# Altium footprint library flight-controller.PcbLib: 66 footprints (part 4 of 5)
Each footprint in its own frame and in the unit in brackets; x right, y up, seen from the top. Pads: shape width x height; smd on the part's side, far side on the other; paste and mask are expansions set on the pad; w line width, h text height; cw(c..) or ccw(c..) is an arc to the next point about the centre after c.
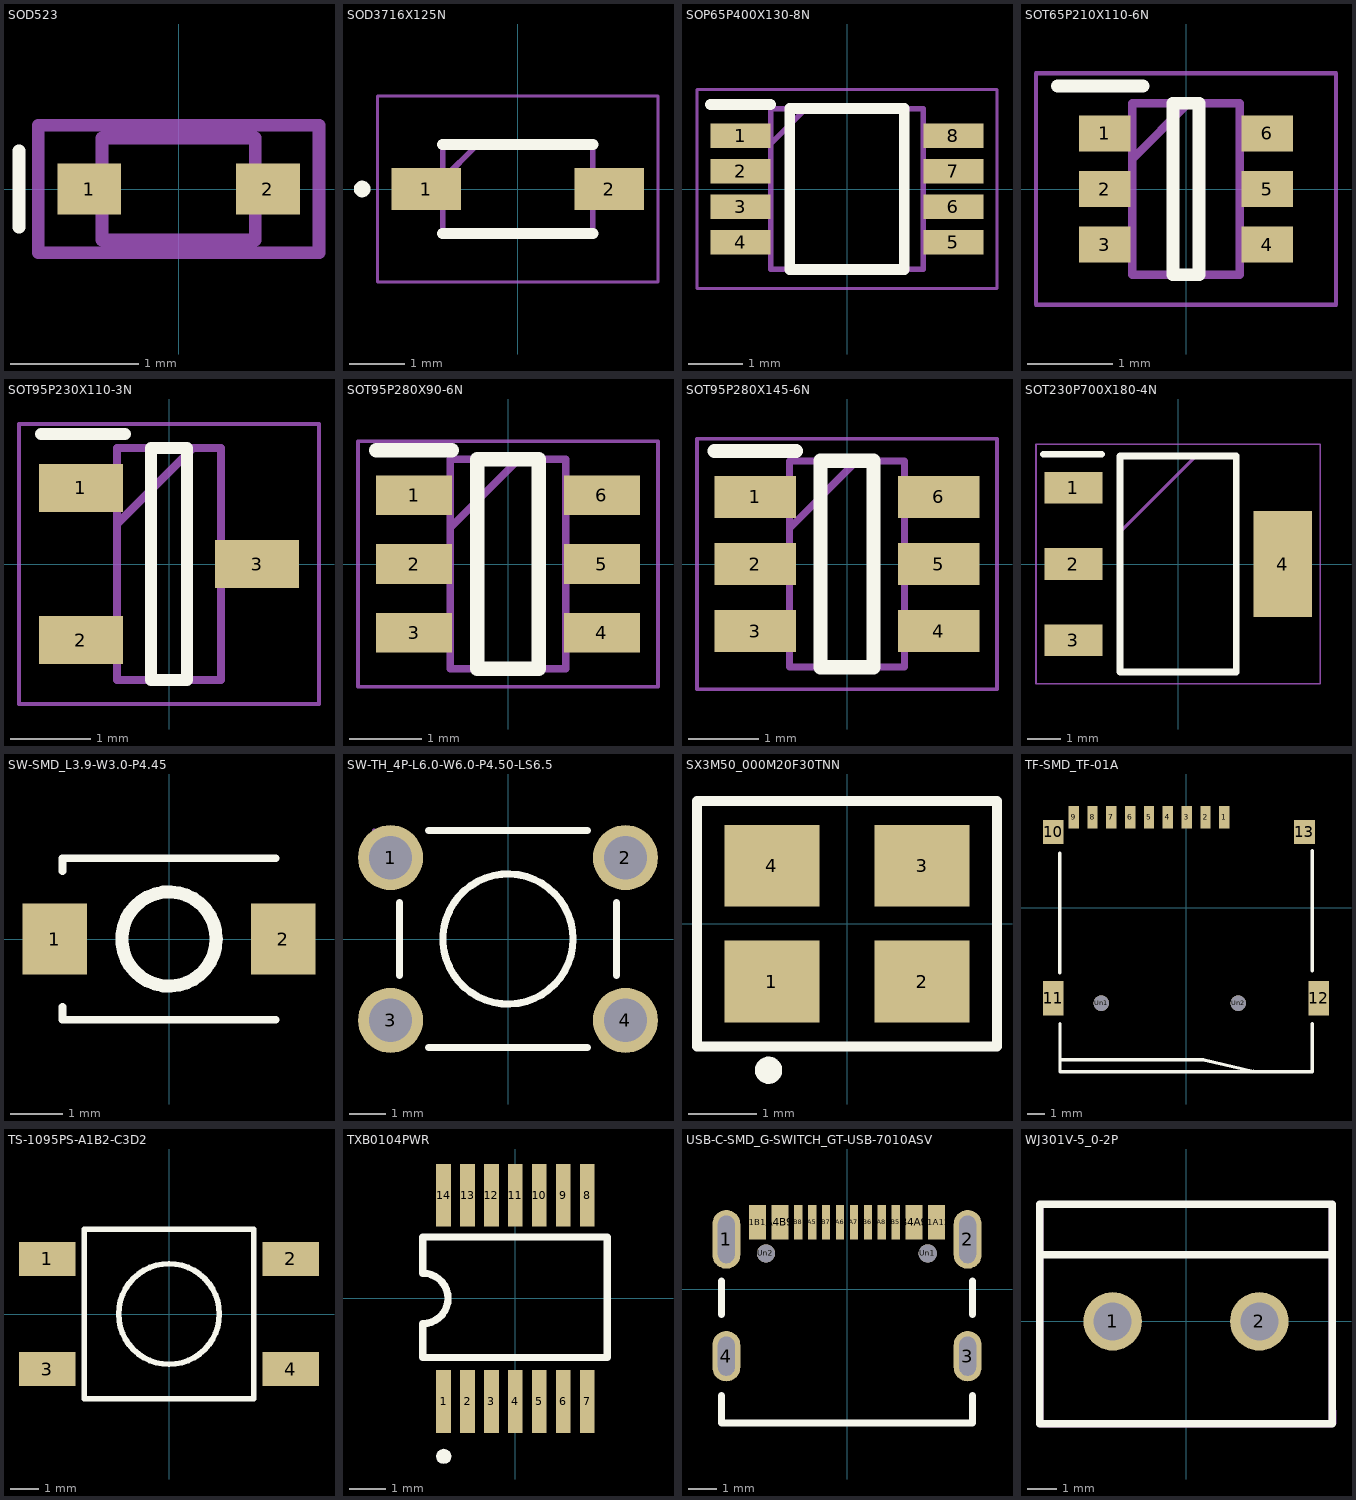
[diagram p3: the footprints below, top view; thin cyan lines are the x and y axes]

## SOD523 [mm]
pads (2):
  rect 0.5x0.4 smd: 1(-0.7,0) 2(0.7,0)
Top Overlay:
  lines w0.1: -1.25,-0.3 -1.25,0.3
Mechanical 13:
  lines w0.1: -0.6,-0.4 -0.6,0.4 0.6,0.4 0.6,-0.4 -0.6,-0.4
Mechanical 15:
  lines w0.1: -1.1,-0.5 -1.1,0.5 1.1,0.5 1.1,-0.5 -1.1,-0.5
3D body "BAS516_115.step": height 0.61, standoff 0, extent -0.8,-0.4 0.8,0.4

## SOD3716X125N [mm]
pads (2):
  rect 1.25x0.75 smd: 1(-1.65,0) 2(1.65,0)
Top Overlay:
  circle w0.15: c-2.8,0 r0.075
  lines w0.2: -1.35,-0.8 1.35,-0.8 ; -1.35,0.8 1.35,0.8
Mechanical 13:
  lines w0.1: -1.35,0.175 -0.725,0.8 ; -1.35,-0.8 1.35,-0.8 1.35,0.8 -1.35,0.8 -1.35,-0.8
Mechanical 15:
  lines w0.05: -2.525,-1.675 2.525,-1.675 2.525,1.675 -2.525,1.675 -2.525,-1.675
3D body "1N5819HW-7-F.stp": height 1.25, standoff 0.06, extent -1.35,-0.8 1.35,0.8

## SOP65P400X130-8N [mm]
pads (8):
  rect 1.1x0.45 smd: 1(-1.95,0.975) 2(-1.95,0.325) 3(-1.95,-0.325) 4(-1.95,-0.975) 5(1.95,-0.975) 6(1.95,-0.325) 7(1.95,0.325) 8(1.95,0.975)
Top Overlay:
  lines w0.2: -2.5,1.55 -1.4,1.55 ; -1.05,-1.475 -1.05,1.475 1.05,1.475 1.05,-1.475 -1.05,-1.475
Mechanical 13:
  lines w0.1: -1.4,0.825 -0.75,1.475 ; -1.4,-1.475 -1.4,1.475 1.4,1.475 1.4,-1.475 -1.4,-1.475
Mechanical 15:
  lines w0.05: -2.75,-1.825 -2.75,1.825 2.75,1.825 2.75,-1.825 -2.75,-1.825
3D body "SN74LVC2G241DCTR.stp": height 0.91, standoff 0, extent -2.01,-1.475 2.01,1.475

## SOT65P210X110-6N [mm]
pads (6):
  rect 0.6x0.42 smd: 1(-0.95,0.65) 2(-0.95,0) 3(-0.95,-0.65) 4(0.95,-0.65) 5(0.95,0) 6(0.95,0.65)
Top Overlay:
  lines w0.15: -1.5,1.2 -0.5,1.2 ; -0.15,-1 0.15,-1 0.15,1 -0.15,1 -0.15,-1
Mechanical 13:
  lines w0.1: -0.625,0.35 0.025,1 ; -0.625,-1 0.625,-1 0.625,1 -0.625,1 -0.625,-1
Mechanical 15:
  lines w0.05: -1.75,-1.35 1.75,-1.35 1.75,1.35 -1.75,1.35 -1.75,-1.35
3D body "BSS8402DW-7-F.stp": height 1.09, standoff 0, extent -1.053,-1.08 1.047,1.07

## SOT95P230X110-3N [mm]
pads (3):
  rect 1.05x0.6 smd: 1(-1.1,0.95) 2(-1.1,-0.95) 3(1.1,0)
Top Overlay:
  lines w0.15: -1.6,1.625 -0.55,1.625 ; -0.225,-1.45 0.225,-1.45 0.225,1.45 -0.225,1.45 -0.225,-1.45
Mechanical 13:
  lines w0.1: -0.65,0.5 0.3,1.45 ; -0.65,-1.45 0.65,-1.45 0.65,1.45 -0.65,1.45 -0.65,-1.45
Mechanical 15:
  lines w0.05: -1.875,-1.75 1.875,-1.75 1.875,1.75 -1.875,1.75 -1.875,-1.75
3D body "2N7002,215.stp": height 0.95, standoff 0, extent -1.201,-1.448 1.199,1.452

## SOT95P280X90-6N [mm]
pads (6):
  rect 1.05x0.55 smd: 1(-1.3,0.95) 2(-1.3,0) 3(-1.3,-0.95) 4(1.3,-0.95) 5(1.3,0) 6(1.3,0.95)
Top Overlay:
  lines w0.2: -1.825,1.575 -0.775,1.575 ; -0.425,-1.45 0.425,-1.45 0.425,1.45 -0.425,1.45 -0.425,-1.45
Mechanical 13:
  lines w0.1: -0.8,0.5 0.15,1.45 ; -0.8,-1.45 0.8,-1.45 0.8,1.45 -0.8,1.45 -0.8,-1.45
Mechanical 15:
  lines w0.05: -2.075,-1.7 2.075,-1.7 2.075,1.7 -2.075,1.7 -2.075,-1.7
3D body "AP63300WU-7.stp": height 0.9, standoff 0, extent -1.4,-1.45 1.4,1.45

## SOT95P280X145-6N [mm]
pads (6):
  rect 1.15x0.6 smd: 1(-1.3,0.95) 2(-1.3,0) 3(-1.3,-0.95) 4(1.3,-0.95) 5(1.3,0) 6(1.3,0.95)
Top Overlay:
  lines w0.2: -1.875,1.6 -0.725,1.6 ; -0.375,-1.462 -0.375,1.462 0.375,1.462 0.375,-1.462 -0.375,-1.462
Mechanical 13:
  lines w0.1: -0.812,0.512 0.138,1.462 ; -0.812,-1.462 -0.812,1.462 0.812,1.462 0.812,-1.462 -0.812,-1.462
Mechanical 15:
  lines w0.05: -2.125,-1.775 -2.125,1.775 2.125,1.775 2.125,-1.775 -2.125,-1.775
3D body "ESDA6V1BC6.stp": height 1.45, standoff 0, extent -1.4,-1.462 1.4,1.462

## SOT230P700X180-4N [mm]
pads (4):
  rect 1.75x0.95 smd: 1(-3.15,2.3) 2(-3.15,0) 3(-3.15,-2.3)
  rect 1.75x3.2 smd: 4(3.15,0)
Top Overlay:
  lines w0.2: -4.05,3.3 -2.3,3.3 ; -1.75,-3.25 1.75,-3.25 1.75,3.25 -1.75,3.25 -1.75,-3.25
Mechanical 13:
  lines w0.1: -1.75,0.95 0.55,3.25 ; -1.75,-3.25 1.75,-3.25 1.75,3.25 -1.75,3.25 -1.75,-3.25
Mechanical 15:
  lines w0.05: -4.275,-3.6 4.275,-3.6 4.275,3.6 -4.275,3.6 -4.275,-3.6
3D body "LM1117MP-3.3_NOPB.stp": height 1.68, standoff 0, extent -3.5,-3.25 3.5,3.25

## SW-SMD_L3.9-W3.0-P4.45 [mm]
pads (2):
  rect 1.23x1.36 smd: 1(-2.18,0) 2(2.18,0)
Top Overlay:
  circle w0.25: c0,0 r0.9
  lines w0.15: -2.03,-1.3 -2.03,-1.54 2.03,-1.54 ; -2.03,1.3 -2.03,1.54 2.03,1.54
3D body "SW-SMD_L3.9-W2.9-H2.0-LS4.8.step": height 1.95, standoff 0, extent -2.4,-1.45 2.4,1.45

## SW-TH_4P-L6.0-W6.0-P4.50-LS6.5 [mm]
pads (4):
  round 1.8 hole 1.2: 1(-3.25,2.25) 2(3.25,2.25) 3(-3.25,-2.25) 4(3.25,-2.25)
Top Overlay:
  circle w0.2: c0,0 r1.8
  lines w0.2: -3,-1 -3,1 ; -2.2,-3 2.2,-3 ; -2.2,3 2.2,3 ; 3,-1 3,1
Mechanical 6:
  circle w0.06: c-3.7,3 r0.03
3D body "SW-TH_4P-L6.0-W6.0-H5.0-LS6.5-P4.50.step": height 4.9, standoff -3.5, extent -4.106,-3 4.106,3

## SX3M50_000M20F30TNN [mm]
pads (4):
  rect 1.4x1.2 smd: 1(-1.1,-0.85) 2(1.1,-0.85) 3(1.1,0.85) 4(-1.1,0.85)
Top Overlay:
  circle w0.2: c-1.15,-2.15 r0.1
  lines w0.15: -2.2,-1.8 2.2,-1.8 2.2,1.8 -2.2,1.8 -2.2,-1.8
3D body "SX3M50_000M20F30TNN.step": height 0.95, standoff -0.01, extent -1.6,-1.25 1.6,1.25

## TF-SMD_TF-01A [mm]
pads (15):
  rect 0.6x1.3 smd: 1(2.24,5.28) 2(1.14,5.28) 3(0.04,5.28) 4(-1.06,5.28) 5(-2.16,5.28) 6(-3.26,5.28) 7(-4.36,5.28) 8(-5.46,5.28) 9(-6.56,5.28)
  rect 1.2x1.4 smd: 10(-7.76,4.43) 13(6.92,4.43)
  rect 1.2x2 smd: 11(-7.76,-5.28) 12(7.76,-5.28)
  round 0.9 hole 0.9: Un1(-4.95,-5.57) Un2(3.05,-5.57)
Mid-Layer 14:
  circle w0.4: c3.05,-5.57 r0.2
  circle w0.4: c-4.95,-5.57 r0.2
Top Overlay:
  lines w0.2: -7.366,-3.81 -7.366,3.19 ; -7.36,-9.09 -7.36,-8.87 1,-8.87 3.94,-9.56 ; -7.36,-6.78 -7.36,-9.58 7.37,-9.58 7.37,-6.78 ; 7.366,-3.683 7.366,3.317
3D body "TF-SMD_TF-01A.step": height 1.8, standoff -0.75, extent -8.052,-9.607 8.048,5.396

## TS-1095PS-A1B2-C3D2 [mm]
pads (4):
  rect 2x1.2 smd: 1(-4.3,1.95) 2(4.3,1.95) 3(-4.3,-1.95) 4(4.3,-1.95)
Top Overlay:
  circle w0.2: c0,0 r1.778
  lines w0.2: -3,3 3,3 3,-3 -3,-3 -3,3
3D body "TS-1095PS-A1B2-C3D2.step": height 7.6, standoff -0.01, extent -4.5,-3 4.5,3

## TXB0104PWR [mm]
pads (14):
  rect 0.4x1.7 smd: 1(-1.95,-2.8) 2(-1.3,-2.8) 3(-0.65,-2.8) 4(0,-2.8) 5(0.65,-2.8) 6(1.3,-2.8) 7(1.95,-2.8) 8(1.95,2.8) 9(1.3,2.8) 10(0.65,2.8) 11(0,2.8) 12(-0.65,2.8) 13(-1.3,2.8) 14(-1.95,2.8)
Top Overlay:
  region: -1.868,-4.106 -1.802,-4.15 -1.757,-4.217 -1.742,-4.295 -1.757,-4.372 -1.802,-4.439 -1.868,-4.483 -1.946,-4.498 -2.024,-4.483 -2.09,-4.439 -2.134,-4.372 -2.15,-4.295 -2.134,-4.217 -2.09,-4.15 -2.024,-4.106 -1.946,-4.091
  lines w0.2: -2.515,-1.604 2.5,-1.604 2.5,1.667 -2.515,1.667 -2.515,0.686 cw(c-2.515,0) -2.515,-0.686 -2.515,-1.6
3D body "TXB0104PWR.step": height 1.03, standoff -0.07, extent -2.5,-3.006 2.5,3.006

## USB-C-SMD_G-SWITCH_GT-USB-7010ASV [mm]
pads (18):
  rrect100% 1x2.1 hole 1.7 slot 0.6 at 0 deg: 1(-4.32,1.78) 2(4.32,1.78)
  rrect100% 1x1.8 hole 1.4 slot 0.6 at 0 deg: 3(4.32,-2.4) 4(-4.32,-2.4)
  rect 0.6x1.24 smd: A1B12(-3.2,2.4) A4B9(-2.4,2.4) B1A12(3.2,2.4) B4A9(2.4,2.4)
  rect 0.3x1.24 smd: A5(-1.25,2.4) A6(-0.25,2.4) A7(0.25,2.4) A8(1.25,2.4) B5(1.75,2.4) B6(0.75,2.4) B7(-0.75,2.4) B8(-1.75,2.4)
  round 0.65 hole 0.65: Un1(2.89,1.28) Un2(-2.9,1.28)
Top Overlay:
  lines w0.25: -4.5,-3.8 -4.5,-4.8 4.5,-4.8 4.5,-3.8 ; -4.5,-0.9 -4.5,0.3 ; 4.5,-0.9 4.5,0.3
3D body "USB-C-SMD_G-SWITCH_GT-USB-7010ASV.step": height 3.16, standoff -1.5, extent -4.47,-5.05 4.47,2.85

## WJ301V-5_0-2P [mm]
pads (2):
  rrect100% 2x2 hole 1.3: 1(-2.504,0) 2(2.504,0)
Top Overlay:
  lines w0.254: -5,2.274 5,2.274 ; -5,-3.501 -5,4 5,4 5,-3.501 -5,-3.501
Mechanical 6:
  region: -5,2.147 -5,2.401 5,2.401
  region: 5,-3.628 -5,-3.628 5,-3.374
  region: 5.127,-3.501 4.873,-3.501 4.873,3.873 -4.873,3.873 -4.873,-3.501 -5.127,4 5,4.127
3D body "WJ301V-5_0-2P.step": height 10, standoff -4.2, extent -5.6,-3.446 5,4.054